# EAGLE library part LM339 (library misc)
Low-power quad voltage comparators
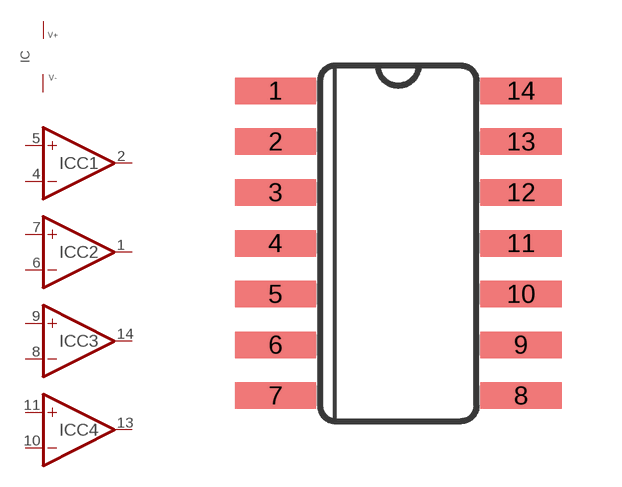
[diagram p58: symbol with the pads of SOIC14; footprint SOIC14]

Designator prefix IC; gates C1=OPAMP C2=OPAMP C3=OPAMP C4=OPAMP G$5=PWR+-

## LM339-SOIC (LCSC#: C71036; MANF: STMicroelectronics; MANF#: LM339DT)  [SOIC14]
1  C2:OUT  out
2  C1:OUT  out
3  G$5:V+  pwr
4  C1:IN-  in
5  C1:IN+  in
6  C2:IN-  in
7  C2:IN+  in
8  C3:IN-  in
9  C3:IN+  in
10  C4:IN-  in
11  C4:IN+  in
12  G$5:V-  pwr
13  C4:OUT  out
14  C3:OUT  out

## Footprint SOIC14 (pad centres in mm)
3D model <http://grabcad.com/library/106x-soic-packages-small-outline-integrated-circuit-1/details?folder_id=13776991>
smd 2.032 x 0.66: 1 -3.073,3.82; 2 -3.073,2.55; 3 -3.073,1.28; 4 -3.073,0.01; 5 -3.073,-1.26; 6 -3.073,-2.53; 7 -3.073,-3.8; 8 3.073,-3.8; 9 3.073,-2.53; 10 3.073,-1.26; 11 3.073,0.01; 12 3.073,1.28; 13 3.073,2.55; 14 3.073,3.82